# EAGLE library part LM2621MM_LM2621MM (library LayerOne_2017)
DC/DC Boost Converter
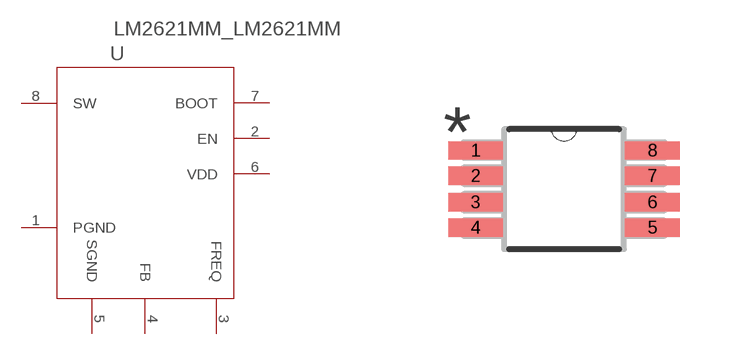
[diagram p0: symbol with the pads of LM2621MM_SOP65P490X110-8N; footprint LM2621MM_SOP65P490X110-8N]

Designator prefix U

## LM2621MM_LM2621MM (AVAILABILITY: Good; DESCRIPTION: Conv DC-DC Single Step Up 1.2V to 14V 8-Pin MSOP T/R; MF: Texas Instruments; MP: LM2621MM/NOPB; PACKAGE: MSOP-8 Texas Instruments; PRICE: 1.33 USD)  [LM2621MM_SOP65P490X110-8N]
1  PGND  pas
2  EN  in
3  FREQ  in
4  FB  in
5  SGND  pas
6  VDD  pwr
7  BOOT  in
8  SW  out

## Footprint LM2621MM_SOP65P490X110-8N (pad centres in mm)
smd 1.372 x 0.457: 1 -2.21,0.965; 2 -2.21,0.33; 3 -2.21,-0.33; 4 -2.21,-0.965; 5 2.21,-0.965; 6 2.21,-0.33; 7 2.21,0.33; 8 2.21,0.965